# Altium footprint library MLF-32.PcbLib: 1 footprints
Each footprint in its own frame and in the unit in brackets; x right, y up, seen from the top. Pads: shape width x height; smd on the part's side, far side on the other; paste and mask are expansions set on the pad; w line width, h text height; cw(c..) or ccw(c..) is an arc to the next point about the centre after c.
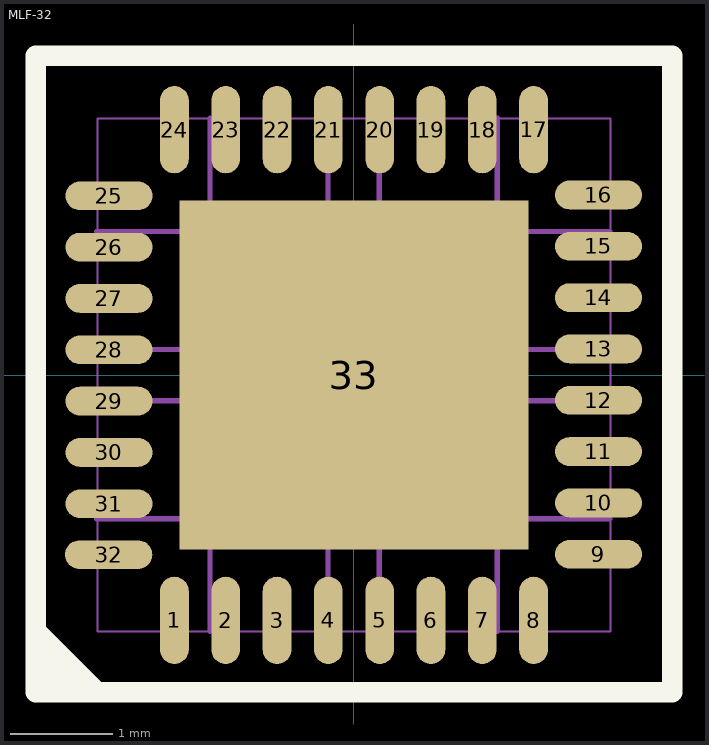
[diagram p0: the footprint, top view; thin cyan lines are the x and y axes]

## MLF-32 [mm] "MLF-32 solder foot print"
height 1.016
pads (33):
  oval 0.28x0.85 smd paste-0.03 mask+0: 1(-1.746,-2.39) 2(-1.246,-2.39) 3(-0.746,-2.39) 4(-0.246,-2.39) 5(0.254,-2.39) 6(0.754,-2.39) 7(1.254,-2.39) 8(1.754,-2.39) 17(1.754,2.39) 18(1.254,2.39) 19(0.754,2.39) 20(0.254,2.39) 21(-0.246,2.39) 22(-0.746,2.39) 23(-1.246,2.39) 24(-1.746,2.39)
  oval 0.85x0.28 smd paste-0.03 mask+0: 9(2.386,-1.746) 10(2.386,-1.246) 11(2.386,-0.746) 12(2.386,-0.246) 13(2.386,0.254) 14(2.386,0.754) 15(2.386,1.254) 16(2.386,1.754) 25(-2.383,1.746) 26(-2.383,1.246) 27(-2.383,0.746) 28(-2.383,0.246) 29(-2.383,-0.254) 30(-2.383,-0.754) 31(-2.383,-1.254) 32(-2.386,-1.75)
  rect 3.4x3.4 smd paste-1.7 mask+0: 33(0.004,0)
Top Overlay:
  lines w0.2: -3.096,-2.76 -2.766,-3.09 ; -3.096,-2.49 -2.496,-3.09 ; -3.096,-3.09 -3.096,3.11 3.104,3.11 3.104,-3.09 -3.096,-3.09
Top Paste:
  rectangle: 0.25,-1.4 1.4,-0.25
  rectangle: -1.4,-1.4 -0.25,-0.25
  rectangle: 0.25,0.25 1.4,1.4
  rectangle: -1.4,0.25 -0.25,1.4
Mechanical 1:
  lines w0.02: -2.496,-2.5 -2.496,2.5 2.504,2.5 2.504,-2.5 ; -2.496,-2.497 2.504,-2.497
  lines w0.05: -2.504,-1.4 2.496,-1.4 ; -2.504,1.4 2.496,1.4 ; -2.496,-0.25 2.504,-0.25 ; -2.496,0.25 2.504,0.25 ; -1.4,-2.496 -1.4,2.504 ; -0.25,-2.496 -0.25,2.504 ; 0.25,-2.496 0.25,2.504 ; 1.4,-2.496 1.4,2.504